# EAGLE library part AT42QT1012 (library local_parts)
Atmel AT42QT1012 The AT42QT1012 (QT1012) is a single key device featuring a touch on/touch off (toggle) output with a programmable auto switch-off capability. The QT1012 is a digital burst mode charge-transfer (QT™) sensor designed specifically for touch controls. It includes all hardware and signal processing functions necessary to provide stable sensing under a wide variety of changing conditions; only low cost, noncritical components are required for operation. This chip seperates itself from the AT42QT1010/1011 with toggle on/off operation rather than momentary push activation. Datasheet <http://www.atmel.com/images/Atmel-9543-AT42-QTouch-BSW-AT42QT1012_Datasheet.pdf> Sparkfun Products Sparkfun Capacitive Touch Breakout <https://www.sparkfun.com/products/12041> (SEN-12041)
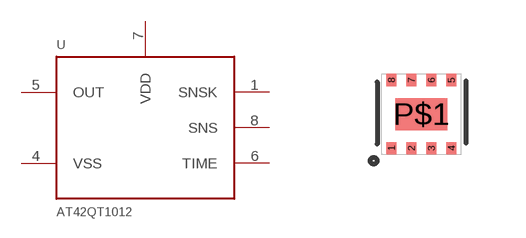
[diagram p2: symbol with the pads of UDFN/USON_8_PAD; footprint UDFN/USON_8_PAD]

Designator prefix -

## AT42QT1012  [UDFN/USON_8_PAD]
1  SNSK
4  VSS
5  OUT
6  TIME
7  VDD
8  SNS

## Footprint UDFN/USON_8_PAD (pad centres in mm)
8-pin UDFN/USON Specifications: Pin Count: 8 Area: 2 x 1.5 mm Pitch: .5mm Devices Using AT42QT1010 AT42QT1011 AT42QT1012
smd 0.25 x 0.3: 1 -0.75,-0.852; 2 -0.25,-0.852; 3 0.25,-0.852; 4 0.75,-0.852; 5 0.75,0.852; 6 0.25,0.852; 7 -0.25,0.852; 8 -0.75,0.852
smd 1.3 x 0.8: P$1 0,0